# Altium footprint library VioletofSun.PcbLib: 319 footprints (part 18 of 20)
Each footprint in its own frame and in the unit in brackets; x right, y up, seen from the top. Pads: shape width x height; smd on the part's side, far side on the other; paste and mask are expansions set on the pad; w line width, h text height; cw(c..) or ccw(c..) is an arc to the next point about the centre after c.
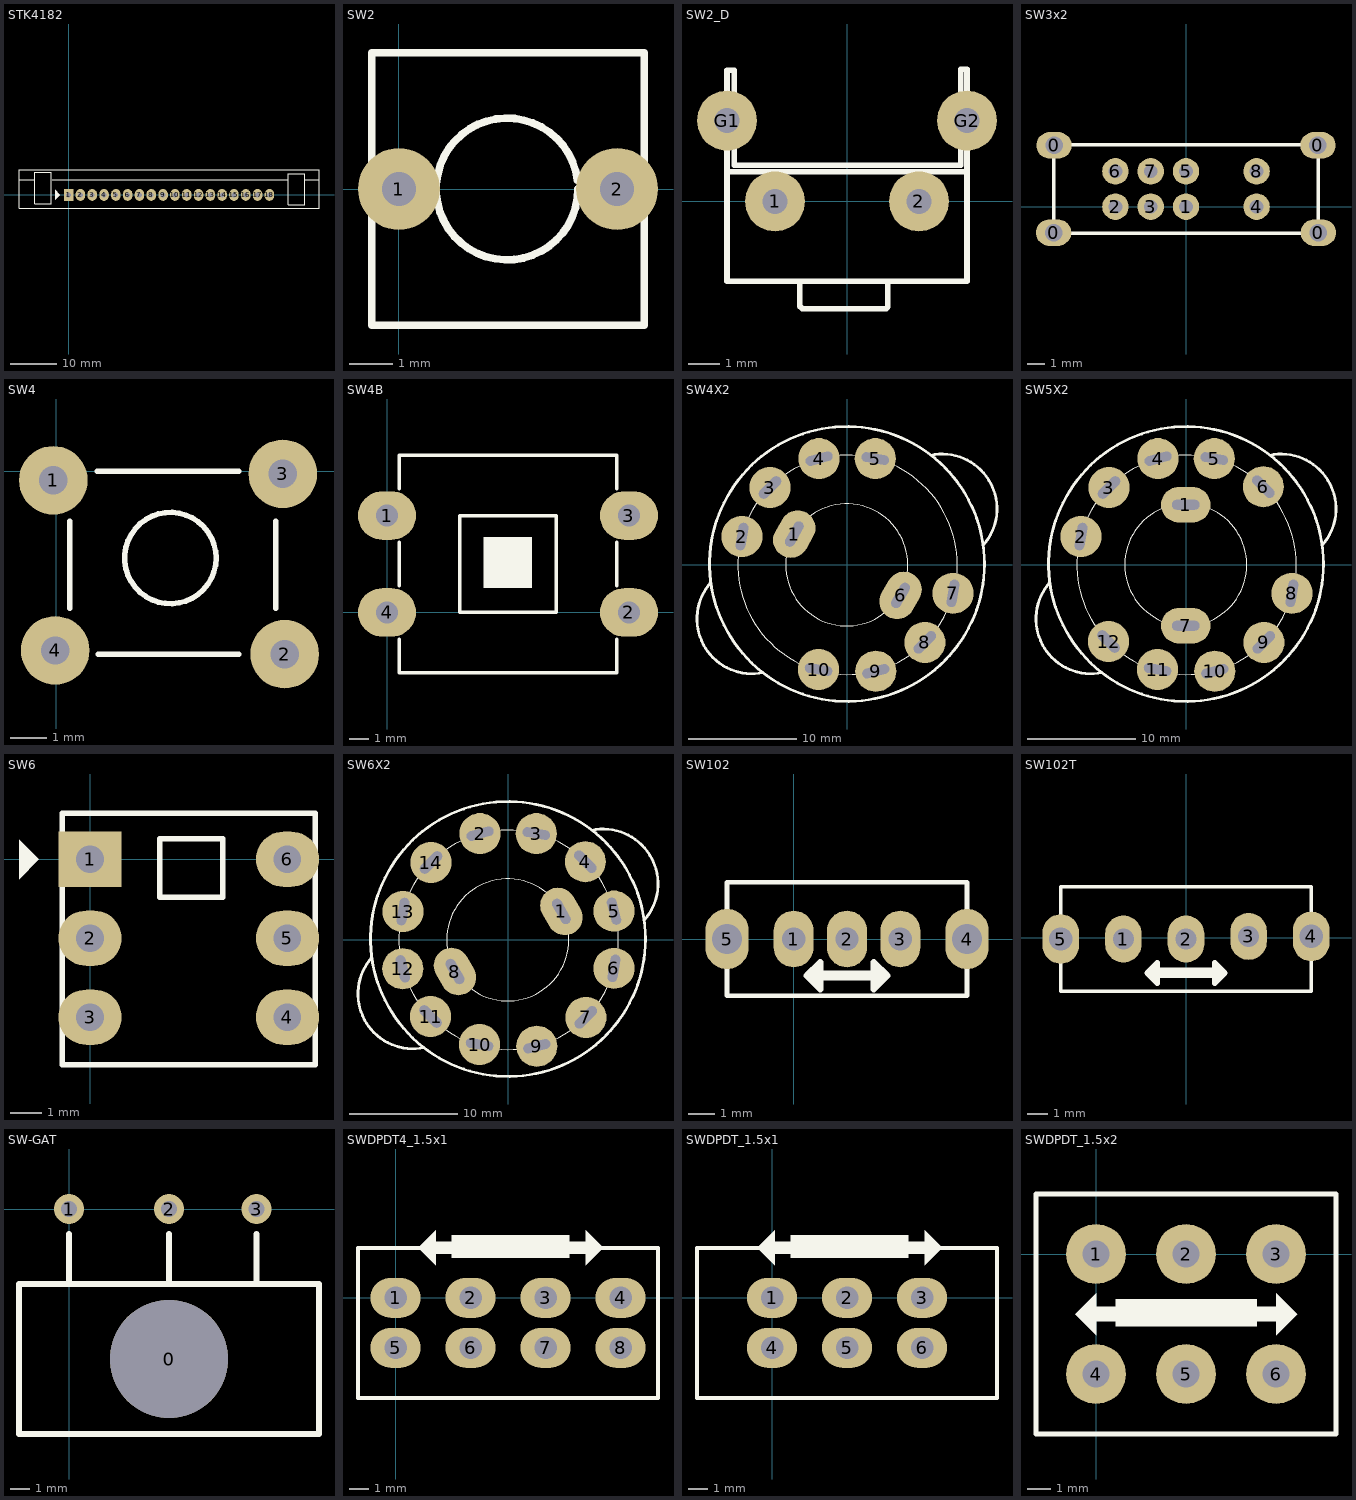
[diagram p17: the footprints below, top view; thin cyan lines are the x and y axes]

## STK4182 [mil] "Pin to pin 100mil, 18 pin"
pads (18):
  rect 80x100 hole 40: 1(0,0)
  oval 80x100 hole 40: 2(100,0) 3(200,0) 4(300,0) 5(400,0) 6(500,0) 7(600,0) 8(700,0) 9(800,0) 10(900,0) 11(1000,0) 12(1100,0) 13(1200,0) 14(1300,0) 15(1400,0) 16(1500,0) 17(1600,0) 18(1700,0)
Top Overlay:
  region: -115,42.5 -115,-42.5 -75,-2.5 -75,2.5
  lines w10: -420,130 -285,130 ; -140,130 1860,130 ; 2000,130 2120,130 ; -420,-115 2120,-115 2120,215 -420,215 -420,-115 ; -285,-75 -285,190 -145,190 -145,-75 -285,-75 ; 1860,-85 2000,-85 2000,180 1860,180 1860,-85

## SW2 [mil] "SW button 2pin, 250x 250 mil"
height 100
pads (2):
  round 75 hole 31: 1(0,0) 2(200,0)
Top Overlay:
  lines w7: 163.64,8.26 ccw(c99.17,0) 164.17,0 ; -25,-125 -25,125 225,125 225,-125 -25,-125

## SW2_D [mil] "SW button 2pin, 300x 300 x 250 mil"
height 100
pads (4):
  round 75 hole 31: 1(-90,0) 2(90,0) G1(-150,101) G2(150,101)
Top Overlay:
  lines w7: -150,37 150,37 ; -59,-100 -59,-131 -56,-134 49,-134 51,-132 51,-100 ; -150,-100 -150,164 -141,164 -141,45 142,45 142,165 150,165 150,-100 -150,-100

## SW3x2 [mil] "Switch 3x2 - pin to pin 80"
height 500
pads (12):
  oval 80x60 hole 40: 0(-300,-59) 0(-299,139) 0(299,139) 0(300,-59)
  round 60 hole 31: 1(0,0) 2(-160,0) 3(-80,0) 4(160,0) 5(0,80) 6(-160,80) 7(-80,80) 8(160,80)
Top Overlay:
  lines w8: -300,-60 -300,140 300,140 300,-60 -300,-60

## SW4 [mil] "SW button 4pin, 250 x250 mil"
height 100
pads (4):
  round 75 hole 31: 1(-3,-10) 2(250,-200) 3(248,-3) 4(-1,-196)
Top Overlay:
  circle w6: c125,-95 r50
  lines w6: 15,-150 15,-55 ; 45,0 200,0 ; 46,-200 200,-200 ; 240,-150 240,-55
  lines w7: 239,-215 240,-214
3D body: height 275.59, standoff -137.8, extent -35.51,-220 275.51,24.09

## SW4B [mil] "SW button 4pin, 450 x 450 mil"
height 100
pads (4):
  oval 120x100 hole 45: 1(0,200) 2(500,0) 3(500,200) 4(0,0)
Top Overlay:
  rectangle: 199,50 300,156
  lines w7: 25,-55 25,-125 475,-125 475,-55 ; 25,55 25,145 ; 25,255 25,325 475,325 475,255 ; 475,55 475,145 ; 150,0 350,0 350,200 150,200 150,0

## SW4X2 [mil] "Switch 4x2"
height 500
pads (10):
  oval 180x130 hole 35 slot 100 at 60 deg rot 60: 1(-193.57,112.51) 6(193.7,-111.07)
  round 150 hole 35 slot 100 at 80 deg: 2(-384.48,103.48) 7(384.48,-103.48)
  round 150 hole 35 slot 100 at 45 deg: 3(-282.26,282.26) 8(282.26,-282.26)
  round 150 hole 35 slot 100 at 15 deg: 4(-103.48,387.48) 9(103.48,-387.48)
  round 150 hole 35 slot 100 at 170 deg: 5(101.54,387.46) 10(-105.2,-381.27)
Top Overlay:
  circle w10: c-1.46,3.46 r501
  circle w1: c0.54,0.46 r400
  circle w1: c-2.46,0.46 r222.5
  lines w10: -498,-63.94 ccw(c-348.29,-196.56) -307.65,-392.38 ; 303.52,399.93 cw(c345.18,204.32) 495.11,71.95

## SW5X2 [mil] "Switch 5x2"
height 500
pads (12):
  oval 180x130 hole 35 slot 100 at 0 deg: 1(-2.46,219.46) 7(-2.46,-221.54)
  round 150 hole 35 slot 100 at 80 deg: 2(-384.48,103.48) 8(384.48,-103.48)
  round 150 hole 35 slot 100 at 45 deg: 3(-282.26,282.26) 9(282.26,-282.26)
  round 150 hole 35 slot 100 at 15 deg: 4(-103.48,387.48) 10(103.48,-387.48)
  round 150 hole 35 slot 100 at 170 deg: 5(101.54,387.46) 11(-105.2,-381.27)
  round 150 hole 35 slot 100 at 135 deg: 6(280.32,285.24) 12(-283.98,-279.05)
Top Overlay:
  circle w10: c-1.46,3.46 r501
  circle w1: c0.54,0.46 r400
  circle w1: c-2.46,0.46 r222.5
  lines w10: -498,-63.94 ccw(c-348.29,-196.56) -307.65,-392.38 ; 303.52,399.93 cw(c345.18,204.32) 495.11,71.95

## SW6 [mil] "SW DTDP - 6Pin 260x300x300 mil"
pads (6):
  rect 80x70 hole 35: 1(0,0)
  oval 80x70 hole 35: 2(0,-100) 3(0,-200) 4(250,-200) 5(250,-100) 6(250,0)
Top Overlay:
  region: -90,25 -65,0 -90,-25
  lines w7: 165,26 88,26 88,-48 168,-48 168,26 ; -35,-260 -35,58 285,58 285,-260 -35,-260

## SW6X2 [mil] "Switch 6x2"
height 500
pads (14):
  oval 180x130 hole 35 slot 100 at 120 deg rot 120: 1(193,104) 8(-195,-115)
  round 150 hole 35 slot 100 at 15 deg: 2(-103.48,387.48) 9(103.48,-387.48)
  round 150 hole 35 slot 100 at 170 deg: 3(101.54,387.46) 10(-105.2,-381.27)
  round 150 hole 35 slot 100 at 135 deg: 4(280.32,285.24) 11(-283.98,-279.05)
  round 150 hole 35 slot 100 at 105 deg: 5(385,105) 12(-385,-105)
  round 150 hole 35 slot 100 at 80 deg: 6(384.48,-103.48) 13(-384.48,103.48)
  round 150 hole 35 slot 100 at 45 deg: 7(282.26,-282.26) 14(-282.26,282.26)
Top Overlay:
  circle w1: c-2.46,0.46 r222.5
  circle w1: c0.54,0.46 r400
  circle w10: c-1.46,3.46 r501
  lines w10: -498,-63.94 ccw(c-348.29,-196.56) -307.65,-392.38 ; 303.52,399.93 cw(c345.18,204.32) 495.11,71.95

## SW102 [mil] "Switch 102 On Board nho"
height 2
pads (5):
  oval 60x85 hole 35: 1(0,0) 2(80,0) 3(160,0)
  oval 65x90 hole 45: 4(260,0) 5(-100,0)
Top Overlay:
  lines w7: -100,-45 -100,-85 260,-85 260,-45 ; -100,45 -100,85 260,85 260,45
  lines w10: 20,-55 40,-35 40,-75 20,-55 ; 120,-75 120,-35 140,-55 120,-75
  lines w15: 30,-55 130,-55

## SW102T [mil] "Switch 102 On Board To"
height 2
pads (5):
  oval 70x90 hole 40: 1(-120,-2.5) 2(0,-2.5) 3(120,2.5)
  oval 70x95 hole 45: 4(240,2.5) 5(-240,-2.5)
Top Overlay:
  lines w7: -240,-50 -240,-102.5 240,-102.5 240,-45 ; -240,45 -240,97.5 240,97.5 240,45
  lines w10: -75,-67.5 -55,-87.5 -55,-47.5 -75,-67.5 ; 55,-87.5 75,-67.5 55,-47.5 55,-87.5
  lines w20: -65,-67.5 65,-67.5

## SW-GAT [mil]
pads (4):
  round 236.22 hole 236.22: 0(200,-300)
  round 60 hole 31.5: 1(0,0) 2(200,0) 3(375,0)
Top Overlay:
  lines w12: 0,-150 0,-50 ; 200,-150 200,-50 ; 375,-150 375,-50 ; -100,-450 -100,-150 500,-150 500,-450 -100,-450

## SWDPDT4_1.5x1 [mil] "Switch 3 DPDT, Pin to Pin 150mil, Row to Row 100mil"
pads (8):
  oval 100x80 hole 45: 1(0,0) 2(150,0) 3(300,0) 4(450,0) 5(0,-100) 6(150,-100) 7(300,-100) 8(450,-100)
Top Overlay:
  region: 112.5,125 347.5,125 347.5,80 112.5,80
  region: 380,135 380,65 415,100
  region: 80,135 80,65 45,100
  lines w8: -75,-200 -75,100 525,100 525,-200 -75,-200
  lines w25: 75,100 125,100 ; 335,100 385,100

## SWDPDT_1.5x1 [mil] "Switch DPDT, Pin to Pin 150mil, Row to Row 100mil"
pads (6):
  oval 100x80 hole 45: 1(0,0) 2(150,0) 3(300,0) 4(0,-100) 5(150,-100) 6(300,-100)
Top Overlay:
  region: 5,135 5,65 -30,100
  region: 305,135 305,65 340,100
  region: 37.5,125 272.5,125 272.5,80 37.5,80
  lines w8: -150,-200 450,-200 450,100 -150,100 -150,-200
  lines w25: 0,100 50,100 ; 260,100 310,100

## SWDPDT_1.5x2 [mil] "Switch DPDT, Pin to Pin 150mil, Row to Row 200mil"
pads (6):
  round 100 hole 45: 1(0,0) 2(150,0) 3(300,0) 4(0,-200) 5(150,-200) 6(300,-200)
Top Overlay:
  region: 0,-65 0,-135 -35,-100
  region: 300,-65 300,-135 335,-100
  region: 32.5,-75 267.5,-75 267.5,-120 32.5,-120
  lines w8: -100,-300 400,-300 400,100 -100,100 -100,-300
  lines w25: -5,-100 45,-100 ; 255,-100 305,-100